# Altium footprint library LedSMD.PcbLib: 1 footprints
Each footprint in its own frame and in the unit in brackets; x right, y up, seen from the top. Pads: shape width x height; smd on the part's side, far side on the other; paste and mask are expansions set on the pad; w line width, h text height; cw(c..) or ccw(c..) is an arc to the next point about the centre after c.
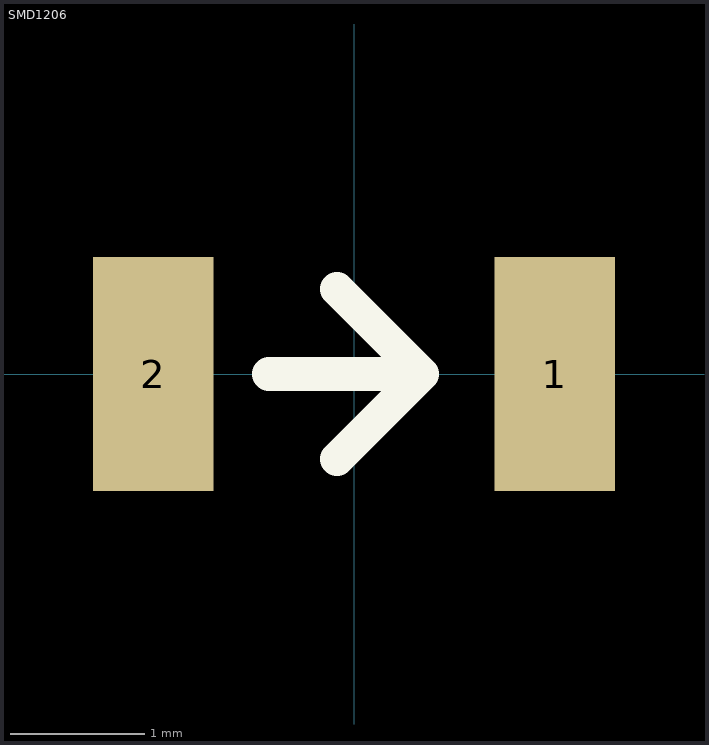
[diagram p0: the footprint, top view; thin cyan lines are the x and y axes]

## SMD1206 [mm]
pads (2):
  rect 0.9x1.75 smd: 1(1.5,0) 2(-1.5,0)
Top Overlay:
  lines w0.254: -0.635,0 0.508,0 ; -0.127,-0.635 0.508,0 ; -0.127,0.635 0.508,0
3D body: height 1.11, standoff -0.4, extent -1.651,-0.838 1.549,0.762